# Altium footprint library MT25QU256ABA1EW7-0SIT.PcbLib: 3 footprints
Each footprint in its own frame and in the unit in brackets; x right, y up, seen from the top. Pads: shape width x height; smd on the part's side, far side on the other; paste and mask are expansions set on the pad; w line width, h text height; cw(c..) or ccw(c..) is an arc to the next point about the centre after c.
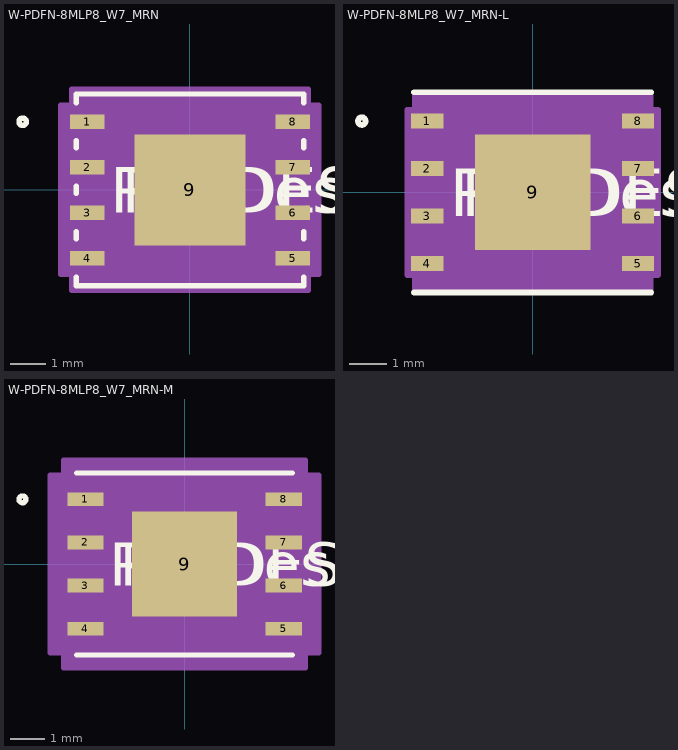
[diagram p0: the footprints below, top view; thin cyan lines are the x and y axes]

## W-PDFN-8MLP8_W7_MRN [mil]
pads (9):
  rect 38x16 smd paste+0 mask+0: 1(-113,75) 2(-113,25) 3(-113,-25) 4(-113,-75) 5(113,-75) 6(113,-25) 7(113,25) 8(113,75)
  rect 122x122 smd paste+0 mask+0: 9(0,0)
Top Overlay:
  circle w6: c-184,75 r4
  lines w6: -125,-96.1 -125,-105.5 125,-105.5 125,-96.1 ; -125,-53.9 -125,-46.1 ; -125,-3.9 -125,3.9 ; -125,46.1 -125,53.9 ; -125,96.1 -125,105.5 125,105.5 125,96.1 ; 125,-53.9 125,-46.1 ; 125,-3.9 125,3.9 ; 125,46.1 125,53.9
  text "RefDes" at -75,-25 h50
  text "REFDES" at -87.5,-25 h50
Top Paste:
  region: -3.94,57.06 -57.06,57.06 -57.06,3.94 -3.94,3.94
  region: -3.94,-3.94 -57.06,-3.94 -57.06,-57.06 -3.94,-57.06
  region: 57.06,57.06 3.94,57.06 3.94,3.94 57.06,3.94
  region: 57.06,-3.94 3.94,-3.94 3.94,-57.06 57.06,-57.06
Mechanical 13:
  circle w0: c-94,75 r3
  lines w0: -12,100.5 ccw(c0,100.5) 12,100.5
  lines w1: -120,-100.5 120,-100.5 120,100.5 -120,100.5 -120,-100.5
  text "RefDes2" at -87.5,-25 h50
Mechanical 15:
  region: -130,-93 -142,-93 -142,93 -130,93 -130,110.5 130,110.5 130,93 142,93 142,-93 130,-93 130,-110.5 -130,-110.5
  lines w6: -142,-93 -142,93 -130,93 -130,110.5 130,110.5 130,93 142,93 142,-93 130,-93 130,-110.5 -130,-110.5 -130,-93 -142,-93
3D body "W-PDFN-8MLP8_W7_MRN.step": height 32.09, standoff 0, extent -120,-100.51 120,100.51

## W-PDFN-8MLP8_W7_MRN-L [mil]
pads (9):
  rect 34x16 smd paste+0 mask+0: 1(-111,75) 2(-111,25) 3(-111,-25) 4(-111,-75) 5(111,-75) 6(111,-25) 7(111,25) 8(111,75)
  rect 122x122 smd paste+0 mask+0: 9(0,0)
Top Overlay:
  circle w6: c-180,75 r4
  lines w6: -125,-105.5 125,-105.5 ; -125,105.5 125,105.5
  text "RefDes" at -75,-25 h50
  text "REFDES" at -87.5,-25 h50
Top Paste:
  region: -3.94,57.06 -57.06,57.06 -57.06,3.94 -3.94,3.94
  region: -3.94,-3.94 -57.06,-3.94 -57.06,-57.06 -3.94,-57.06
  region: 57.06,57.06 3.94,57.06 3.94,3.94 57.06,3.94
  region: 57.06,-3.94 3.94,-3.94 3.94,-57.06 57.06,-57.06
Mechanical 13:
  circle w0: c-94,75 r3
  lines w0: -12,100.5 ccw(c0,100.5) 12,100.5
  lines w1: -120,-100.5 120,-100.5 120,100.5 -120,100.5 -120,-100.5
  text "RefDes2" at -87.5,-25 h50
Mechanical 15:
  region: -124,-87 -132,-87 -132,87 -124,87 -124,104.5 124,104.5 124,87 132,87 132,-87 124,-87 124,-104.5 -124,-104.5
  lines w6: -132,-87 -132,87 -124,87 -124,104.5 124,104.5 124,87 132,87 132,-87 124,-87 124,-104.5 -124,-104.5 -124,-87 -132,-87
3D body "W-PDFN-8MLP8_W7_MRN.step": height 32.09, standoff 0, extent -120,-100.51 120,100.51

## W-PDFN-8MLP8_W7_MRN-M [mil]
pads (9):
  rect 42x16 smd paste+0 mask+0: 1(-115,75) 2(-115,25) 3(-115,-25) 4(-115,-75) 5(115,-75) 6(115,-25) 7(115,25) 8(115,75)
  rect 122x122 smd paste+0 mask+0: 9(0,0)
Top Overlay:
  circle w6: c-188,75 r4
  lines w6: -125,-105.5 125,-105.5 ; -125,105.5 125,105.5
  text "RefDes" at -75,-25 h50
  text "REFDES" at -87.5,-25 h50
Top Paste:
  region: -3.94,57.06 -57.06,57.06 -57.06,3.94 -3.94,3.94
  region: -3.94,-3.94 -57.06,-3.94 -57.06,-57.06 -3.94,-57.06
  region: 57.06,57.06 3.94,57.06 3.94,3.94 57.06,3.94
  region: 57.06,-3.94 3.94,-3.94 3.94,-57.06 57.06,-57.06
Mechanical 13:
  circle w0: c-94,75 r3
  lines w0: -12,100.5 ccw(c0,100.5) 12,100.5
  lines w1: -120,-100.5 120,-100.5 120,100.5 -120,100.5 -120,-100.5
  text "RefDes2" at -87.5,-25 h50
Mechanical 15:
  region: -140,-103 -156,-103 -156,103 -140,103 -140,120.5 140,120.5 140,103 156,103 156,-103 140,-103 140,-120.5 -140,-120.5
  lines w6: -156,-103 -156,103 -140,103 -140,120.5 140,120.5 140,103 156,103 156,-103 140,-103 140,-120.5 -140,-120.5 -140,-103 -156,-103
3D body "W-PDFN-8MLP8_W7_MRN.step": height 32.09, standoff 0, extent -120,-100.51 120,100.51